# Altium schematic symbol library DSP.SchLib: 13 symbols
Pins are listed as number, name and electrical type; pins without a type are passive.

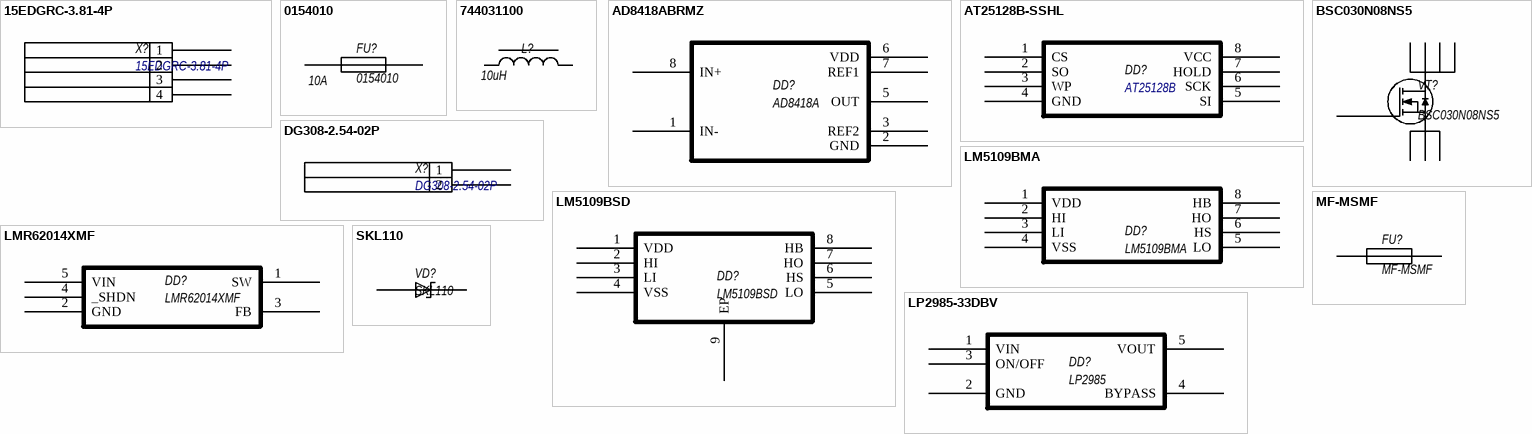
[diagram p0: symbols 15EDGRC-3.81-4P to SKL110]

## 15EDGRC-3.81-4P
designator X?
footprint 15EDGRC
pins: 1, 2, 3, 4

## 0154010
designator FU?  current: 10A
omni fuse block
footprint omni_block_154
pins: 1, 2

## 744031100
designator L?  value 10uH  (hidden comment: 744031100)
chip inductor
footprint 744031100
pins: 1, 2

## AD8418ABRMZ
designator DD?, comment AD8418A
footprint MSOP8
pins: 1 IN-, 2 GND, 3 REF2, 5 OUT, 6 VDD, 7 REF1, 8 IN+

## AT25128B-SSHL
designator DD?, comment AT25128B
EEPROM
footprint SO8_L (SOIC, 8-Leads, Body 4.9x3.9mm, Pitch 1.27mm, IPC High Density)
pins: 1 CS, 2 SO, 3 WP, 4 GND, 5 SI, 6 SCK, 7 HOLD, 8 VCC

## BSC030N08NS5
designator VT?
MOSFET-N
footprint TDSON-8
pins: 1 S, 2 S, 3 S, 4 G, 5 D, 6 D, 7 D, 8 D

## DG308-2.54-02P
designator X?
footprint DG308-2.54-2
pins: 1, 2

## LM5109BMA
designator DD?
Gate driver
footprint SO8_L (SOIC, 8-Leads, Body 4.9x3.9mm, Pitch 1.27mm, IPC High Density)
pins: 1 VDD, 2 HI, 3 LI, 4 VSS, 5 LO, 6 HS, 7 HO, 8 HB

## LM5109BSD
designator DD?
Gate driver
pins: 1 VDD, 2 HI, 3 LI, 4 VSS, 5 LO, 6 HS, 7 HO, 8 HB, 9 EP

## LMR62014XMF
designator DD?
Step-up converter
footprint SOT23-5 (SOT23, 6-Leads, Body 2.9x1.6mm, Pitch 0.95mm, Lead Span 2.7mm, IPC Medium Density)
pins: 1 SW, 2 GND, 3 FB, 4 _SHDN, 5 VIN

## LP2985-33DBV
designator DD?, comment LP2985
Regulator
footprint SOT23-5 (SOT23, 6-Leads, Body 2.9x1.6mm, Pitch 0.95mm, Lead Span 2.7mm, IPC Medium Density)
pins: 1 VIN, 2 GND, 3 ON/OFF, 4 BYPASS, 5 VOUT

## MF-MSMF
designator FU?
recettable fuse
footprint C1812
pins: 1, 2

## SKL110
designator VD?
Shottky rectifier
footprint SOD-123
pins: 1 A, 2 K